# EAGLE library part MC100EL1648DG (library ON Semiconductor_By_element14_Batch_1)
Voltage Controlled Oscillator Amplifier
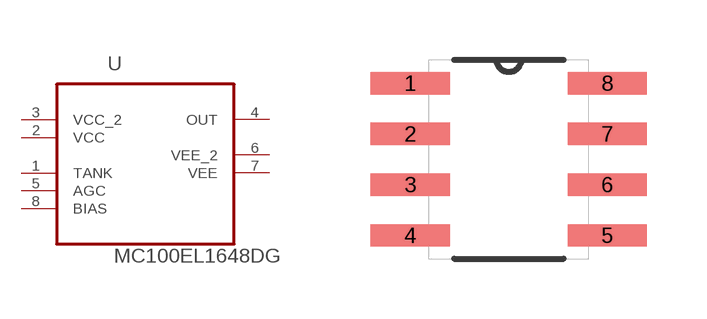
[diagram p80: symbol with the pads of SOIC127P600X175-8N; footprint SOIC127P600X175-8N]

Designator prefix U

## MC100EL1648DG (MPN: MC100EL1648DG; OC_FARNELL: 1192063; OC_NEWARK: 26K3816; P1I: o; PACKAGE: SOIC-8; SUPPLIER: ON Semiconductor)  [SOIC127P600X175-8N]
1  TANK  in
2  VCC  pwr
3  VCC_2  pwr
4  OUT  out
5  AGC  in
6  VEE_2  out
7  VEE  out
8  BIAS  in

## Footprint SOIC127P600X175-8N (pad centres in mm)
smd 1.981 x 0.559: 1 -2.464,1.905; 2 -2.464,0.635; 3 -2.464,-0.635; 4 -2.464,-1.905; 5 2.464,-1.905; 6 2.464,-0.635; 7 2.464,0.635; 8 2.464,1.905